# Altium schematic symbol library MaUWB_DW3000.SchLib: 1 symbol
Pins are listed as number, name and electrical type; pins without a type are passive.

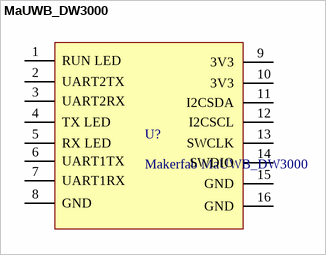
[diagram p0: symbol MaUWB_DW3000]

## MaUWB_DW3000
designator U?, comment Makerfab MaUWB_DW3000
footprint MaUWB_DW3000
pins: 1 RUN LED, 2 UART2TX, 3 UART2RX, 4 TX LED, 5 RX LED, 6 UART1TX, 7 UART1RX, 8 GND, 9 3V3, 10 3V3, 11 I2CSDA, 12 I2CSCL, 13 SWCLK, 14 SWDIO, 15 GND, 16 GND